# Altium footprint library Altium Example Master PCB Library End.PcbLib: 217 footprints (part 3 of 14)
Each footprint in its own frame and in the unit in brackets; x right, y up, seen from the top. Pads: shape width x height; smd on the part's side, far side on the other; paste and mask are expansions set on the pad; w line width, h text height; cw(c..) or ccw(c..) is an arc to the next point about the centre after c.
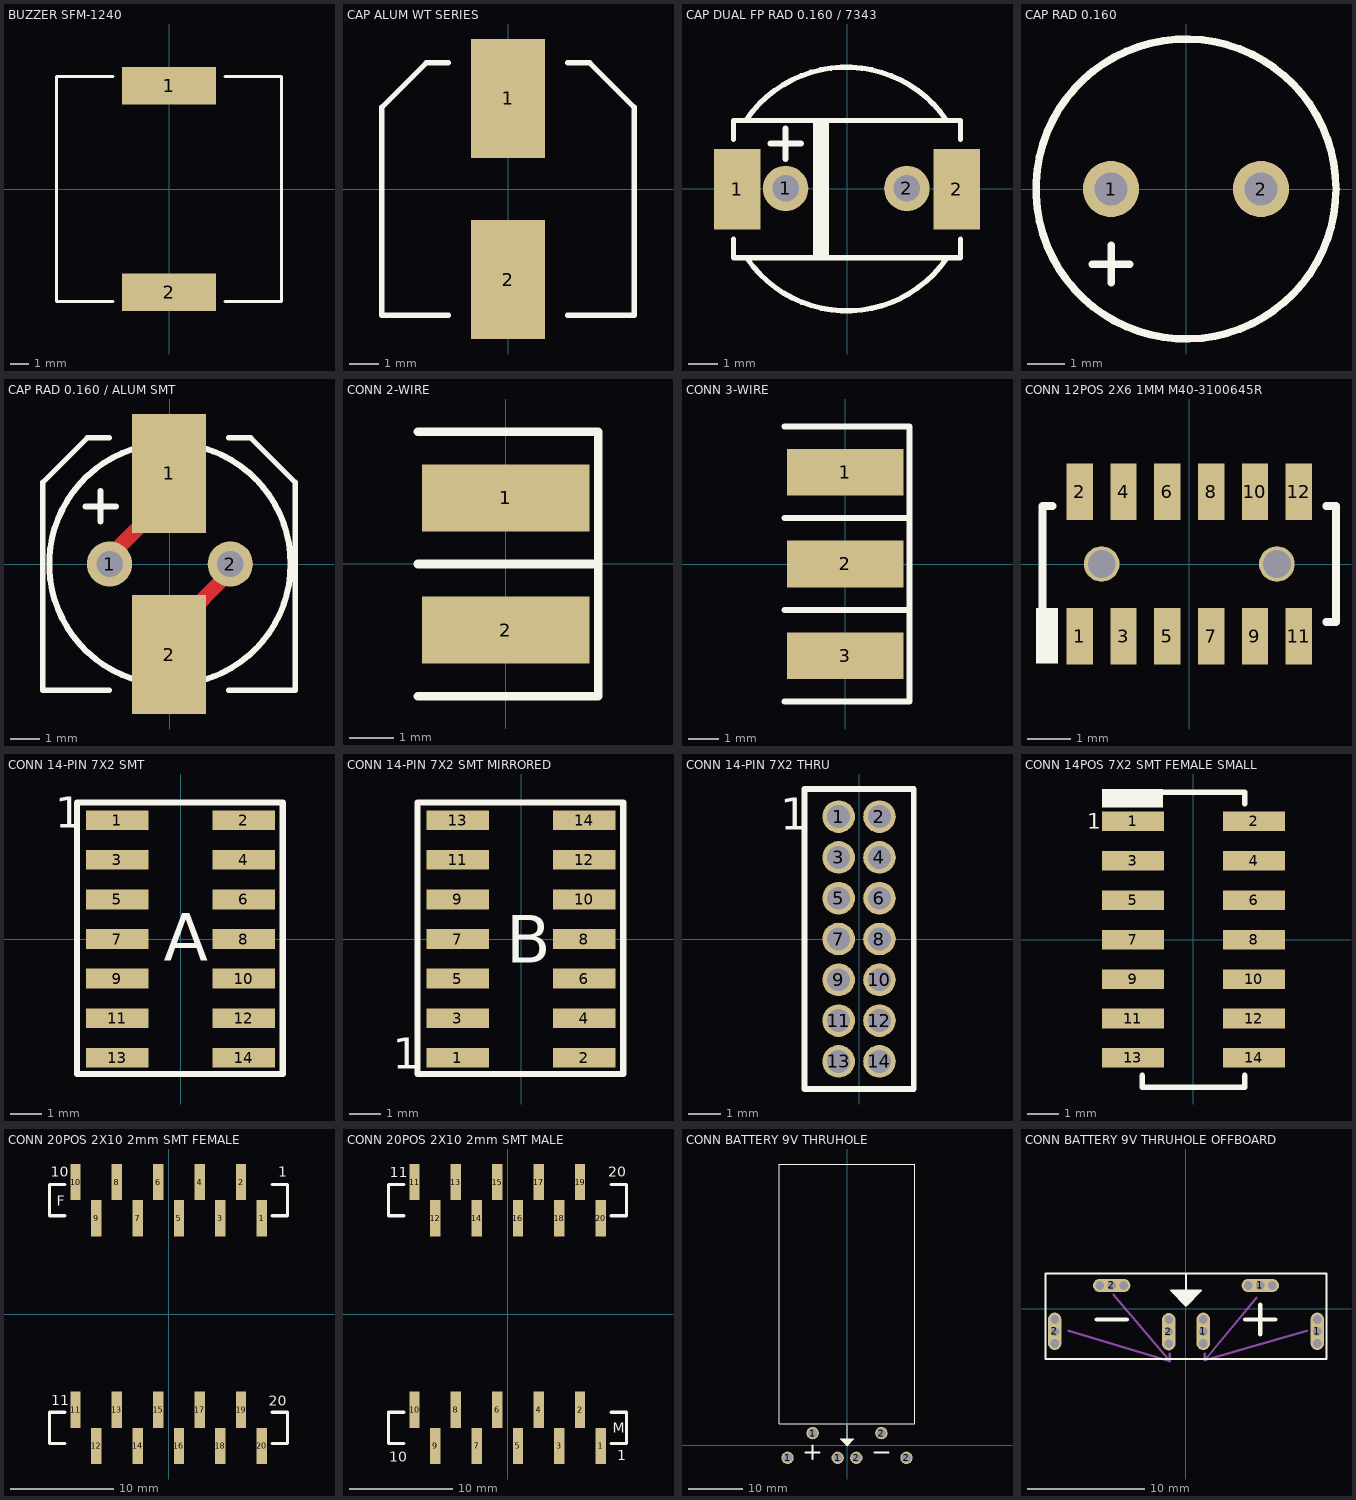
[diagram p2: the footprints below, top view; thin cyan lines are the x and y axes]

## BUZZER SFM-1240 [mm]
pads (2):
  rect 5x2 smd: 1(0,5.5) 2(0,-5.5)
Top Overlay:
  lines w0.178: -3,-6 -6,-6 -6,6 -3,6 ; 3,-6 6,-6 6,6 3,6

## CAP ALUM WT SERIES [mm]
pads (2):
  rect 2.5x4 smd: 1(0,3.05) 2(0,-3.05)
Top Overlay:
  lines w0.178: -4.25,2.25 -4.25,2.75 -2.75,4.25 -2,4.25 ; -4.25,2.7 -4.25,2.65 -4.25,-4.25 -2,-4.25 ; 2,-4.25 4.25,-4.25 4.25,2.65 ; 2,4.25 2.75,4.25 4.25,2.75 4.25,2.125

## CAP DUAL FP RAD 0.160 / 7343 [mil]
pads (4):
  rect 61.02x106.3 smd: 1(-144.69,-0.5) 2(144.69,-0.5)
  round 60 hole 35: 1(-81,0.5) 2(79,0.5)
Top Overlay:
  rectangle: -45,-91.05 -24,90.05
  lines w7: -149.61,-66.11 -149.61,-91.05 149.61,-91.05 149.61,-66.11 ; -149.61,65.11 -149.61,90.05 149.61,90.05 149.61,65.11 ; -133.23,90.59 cw(c-1,0.5) 131.29,90.5 ; -131.99,-91.73 ccw(c-0.23,-0.96) 131.03,-92.46
  lines w8: -101,59.5 -61,59.5 ; -81,39.5 -81,79.5

## CAP RAD 0.160 [mil]
pads (2):
  round 60 hole 35: 1(-80,0) 2(80,0)
Top Overlay:
  circle w8: c0,0 r160
  lines w8: -100,-80 -60,-80 ; -80,-100 -80,-60

## CAP RAD 0.160 / ALUM SMT [mil]
pads (4):
  round 60 hole 35: 1(-80,0) 2(80,0)
  rect 98.43x157.48 smd: 1(-1.26,120.08) 2(-1.26,-120.08)
Top Layer:
  lines w20: -80,0 -80,9.84 -8.15,81.69 -8.15,106.3 ; 12.52,-77.76 80,-10.28 80,0
Top Overlay:
  circle w8: c0,0 r160
  lines w7: -168.58,88.58 -168.58,108.27 -109.53,167.32 -80,167.32 ; -168.58,106.3 -168.58,104.33 -168.58,-167.32 -80,-167.32 ; 77.48,-167.32 166.06,-167.32 166.06,104.33 ; 77.48,167.32 107.01,167.32 166.06,108.27 166.06,83.66
  lines w8: -111.81,76.5 -71.81,76.5 ; -91.81,56.5 -91.81,96.5

## CONN 2-WIRE [mm]
pads (2):
  rect 3.81x1.524 smd: 1(0,1.5) 2(0,-1.5)
Top Overlay:
  lines w0.2: -2,-3 2.1,-3 2.1,2.14 2.1,3 -2,3 ; -2,0 2.1,0

## CONN 3-WIRE [mil]
pads (3):
  rect 150x60 smd: 1(0,118.11) 2(0,0) 3(0,-118.11)
Top Overlay:
  lines w7.87: -78.74,-177.17 82.68,-177.17 82.68,143.31 82.68,177.17 -78.74,177.17 ; -78.74,-59.06 82.68,-59.05 ; -78.74,59.06 82.68,59.06

## CONN 12POS 2X6 1MM M40-3100645R [mm]
height 2.25
pads (14):
  rect 0.6x1.3 smd: 1(-2.5,-1.65) 2(-2.5,1.65) 3(-1.5,-1.65) 4(-1.5,1.65) 5(-0.5,-1.65) 6(-0.5,1.65) 7(0.5,-1.65) 8(0.5,1.65) 9(1.5,-1.65) 10(1.5,1.65) 11(2.5,-1.65) 12(2.5,1.65)
  round 0.813 hole 0.635: ""(-2,0) ""(2,0)
Top Overlay:
  rectangle: -3.5,-2.275 -3,-1
  lines w0.178: -3.125,-1.325 -3.35,-1.325 -3.35,1.325 -3.125,1.325 ; 3.125,-1.325 3.35,-1.325 3.35,1.325 3.125,1.325

## CONN 14-PIN 7X2 SMT [mm]
pads (14):
  rect 2x0.635 smd: 1(-2.032,3.81) 2(2.032,3.81) 3(-2.032,2.54) 4(2.032,2.54) 5(-2.032,1.27) 6(2.032,1.27) 7(-2.032,0) 8(2.032,0) 9(-2.032,-1.27) 10(2.032,-1.27) 11(-2.032,-2.54) 12(2.032,-2.54) 13(-2.032,-3.81) 14(2.032,-3.81)
Top Overlay:
  lines w0.2: -3.319,-4.327 3.281,-4.327 3.281,4.373 -3.319,4.373 -3.319,-4.327
  text "1" at -4.019,3.573 h1
  text "A" at -0.532,-0.69 h1.52

## CONN 14-PIN 7X2 SMT MIRRORED [mm]
pads (14):
  rect 2x0.635 smd: 1(-2.032,-3.81) 2(2.032,-3.81) 3(-2.032,-2.54) 4(2.032,-2.54) 5(-2.032,-1.27) 6(2.032,-1.27) 7(-2.032,0) 8(2.032,0) 9(-2.032,1.27) 10(2.032,1.27) 11(-2.032,2.54) 12(2.032,2.54) 13(-2.032,3.81) 14(2.032,3.81)
Top Overlay:
  lines w0.2: -3.319,-4.327 3.281,-4.327 3.281,4.373 -3.319,4.373 -3.319,-4.327
  text "B" at -0.468,-0.76 h1.52
  text "1" at -4.118,-4.16 h1

## CONN 14-PIN 7X2 THRU [mil]
pads (14):
  round 40 hole 28: 1(-25,150) 2(25,150) 3(-25,100) 4(25,100) 5(-25,50) 6(25,50) 7(-25,0) 8(25,0) 9(-25,-50) 10(25,-50) 11(-25,-100) 12(25,-100) 13(-25,-150) 14(25,-150)
Top Overlay:
  lines w7: -66.93,-183.86 66.93,-183.86 66.93,183.86 -66.93,183.86 -66.93,-183.86
  text "1" at -96.46,133.86 h39.37

## CONN 14POS 7X2 SMT FEMALE SMALL [mm]
height 4.5
pads (14):
  rect 2x0.63 smd: 1(-1.95,3.81) 2(1.95,3.81) 3(-1.95,2.54) 4(1.95,2.54) 5(-1.95,1.27) 6(1.95,1.27) 7(-1.95,0) 8(1.95,0) 9(-1.95,-1.27) 10(1.95,-1.27) 11(-1.95,-2.54) 12(1.95,-2.54) 13(-1.95,-3.81) 14(1.95,-3.81)
Top Overlay:
  rectangle: -2.95,4.25 -0.975,4.85
  lines w0.178: -1.65,-4.375 -1.65,-4.75 1.65,-4.75 1.65,-4.375 ; -1.65,4.375 -1.65,4.75 1.65,4.75 1.65,4.375
  text "1" at -3.425,3.575 h0.51

## CONN 20POS 2X10 2mm SMT FEMALE [mm]
pads (20):
  rect 1x3.5 smd: 1(9,9.25) 2(7,12.75) 3(5,9.25) 4(3,12.75) 5(1,9.25) 6(-1,12.75) 7(-3,9.25) 8(-5,12.75) 9(-7,9.25) 10(-9,12.75) 11(-9,-9.25) 12(-7,-12.75) 13(-5,-9.25) 14(-3,-12.75) 15(-1,-9.25) 16(1,-12.75) 17(3,-9.25) 18(5,-12.75) 19(7,-9.25) 20(9,-12.75)
Top Overlay:
  lines w0.3: -10,-12.5 -11.5,-12.5 -11.5,-9.5 -10,-9.5 ; -10,9.5 -11.5,9.5 -11.5,12.5 -10,12.5 ; 10,-12.5 11.5,-12.5 11.5,-9.5 10,-9.5 ; 10,9.5 11.5,9.5 11.5,12.5 10,12.5
  text "20" at 9.675,-8.875 h1
  text "1" at 10.575,13.275 h1
  text "11" at -11.325,-8.8 h1
  text "10" at -11.4,13.25 h1
  text "F" at -10.8,10.475 h1

## CONN 20POS 2X10 2mm SMT MALE [mm]
pads (20):
  rect 1x3.5 smd: 1(9,-12.75) 2(7,-9.25) 3(5,-12.75) 4(3,-9.25) 5(1,-12.75) 6(-1,-9.25) 7(-3,-12.75) 8(-5,-9.25) 9(-7,-12.75) 10(-9,-9.25) 11(-9,12.75) 12(-7,9.25) 13(-5,12.75) 14(-3,9.25) 15(-1,12.75) 16(1,9.25) 17(3,12.75) 18(5,9.25) 19(7,12.75) 20(9,9.25)
Top Overlay:
  lines w0.3: -10,-12.5 -11.5,-12.5 -11.5,-9.5 -10,-9.5 ; -10,9.5 -11.5,9.5 -11.5,12.5 -10,12.5 ; 10,-12.5 11.5,-12.5 11.5,-9.5 10,-9.5 ; 10,9.5 11.5,9.5 11.5,12.5 10,12.5
  text "M" at 10.175,-11.5 h1
  text "1" at 10.575,-14.125 h1
  text "20" at 9.75,13.25 h1
  text "10" at -11.425,-14.275 h1
  text "11" at -11.4,13.225 h1

## CONN BATTERY 9V THRUHOLE [mil]
pads (6):
  round 90 hole 70: 1(-432.5,-90) 1(-250,90) 1(-67.5,-90) 2(67.5,-90) 2(250,90) 2(432.5,-90)
Top Overlay:
  region: -50,47 0,-3 50,47
  lines w7: 0,147 0,-3 ; 0,-3 -50,47 50,47 0,-3 ; -492.13,157.48 -492.13,2047.24 492.13,2047.24 492.13,157.48 -492.13,157.48
  lines w15: -301,-50 -200,-50 ; -250,-100 -250,0 ; 200,-50 300,-50

## CONN BATTERY 9V THRUHOLE OFFBOARD [mm]
pads (6):
  oval 1.15x3.2 hole 0.75: 1(1.475,-1.95) 1(11.225,-1.95) 2(-11.225,-1.95) 2(-1.475,-1.975)
  oval 3.2x1.15 hole 0.75: 1(6.35,1.975) 2(-6.35,1.975)
via -5.325,1.975 diameter 0.75 hole 0.75
via -7.375,1.975 diameter 0.75 hole 0.75
via 5.325,1.975 diameter 0.75 hole 0.75
via 7.375,1.975 diameter 0.75 hole 0.75
via -11.225,-2.975 diameter 0.75 hole 0.75
via -11.225,-0.925 diameter 0.75 hole 0.75
via -1.475,-3 diameter 0.75 hole 0.75
via -1.475,-0.95 diameter 0.75 hole 0.75
via 1.475,-2.975 diameter 0.75 hole 0.75
via 1.475,-0.925 diameter 0.75 hole 0.75
via 11.225,-2.975 diameter 0.75 hole 0.75
via 11.225,-0.925 diameter 0.75 hole 0.75
Top Overlay:
  region: -1.27,1.53 0,0.26 1.27,1.53
  lines w0.178: 0,3 0,0.26 ; 0,0.26 1.27,1.53 -1.27,1.53 0,0.26 ; -12,-4.3 -12,3 12,3 12,-4.3 -12,-4.3
  lines w0.381: -7.645,-0.934 -5.08,-0.934 ; 5.08,-0.934 7.62,-0.934 ; 6.35,-2.204 6.35,0.336
Mechanical 1:
  lines w0.75: -11.225,-2.975 -11.225,-0.925 ; -7.375,1.975 -5.325,1.975 ; -1.475,-3 -1.475,-0.95 ; 1.475,-2.975 1.475,-0.925 ; 5.325,1.975 7.375,1.975 ; 11.225,-2.975 11.225,-0.925
Mechanical 5:
  lines w0.2: -10.05,-1.9 -1.375,-4.5 ; -6.2,1.175 -1.375,-4.5 ; -1.375,-3.875 -1.375,-4.5 ; 1.6,-3.875 1.6,-4.425 ; 6.025,0.925 1.6,-4.425 ; 10.35,-1.9 1.6,-4.425
  text "Plated slots d=0.75mm (x6)" at -11.8,-6.2 h2.54